# Altium schematic symbol library Anemoia.SchLib: 11 symbols
Pins are listed as number, name and electrical type; pins without a type are passive.

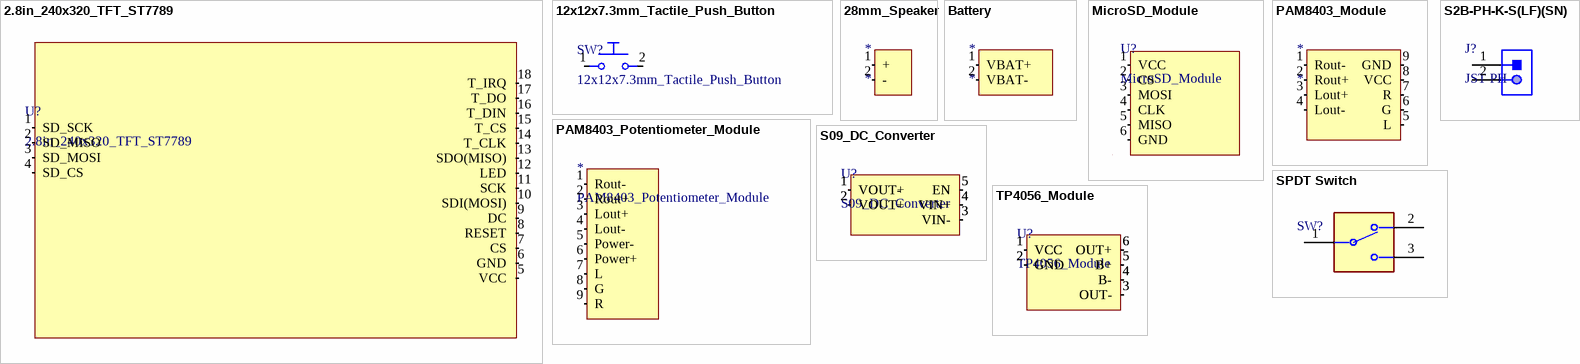
[diagram p0: symbols 2.8in_240x320_TFT_ST7789 to TP4056_Module]

## 2.8in_240x320_TFT_ST7789
designator U?
footprint 2.8in_240x320_TFT_ST7789
pins: 1 SD_SCK (in), 2 SD_MISO (out), 3 SD_MOSI (in), 4 SD_CS (in), 5 VCC (power), 6 GND (power), 7 CS (in), 8 RESET (in), 9 DC (in), 10 SDI(MOSI) (in), 11 SCK (in), 12 LED (power), 13 SDO(MISO) (out), 14 T_CLK (in), 15 T_CS (in), 16 T_DIN (in), 17 T_DO (out), 18 T_IRQ (out)

## 12x12x7.3mm_Tactile_Push_Button
designator SW?
footprint 12x12x7.3mm_Tactile_Push_Button
pins: 1, 2

## 28mm_Speaker
designator *
footprint 28mm_Speaker
pins: 1 +, 2 -

## Battery
designator *
footprint Battery
pins: 1 VBAT+ (power), 2 VBAT- (power)

## MicroSD_Module
designator U?
3.3V MicroSD Module
footprint MicroSD_Module
pins: 1 VCC (power), 2 CS (in), 3 MOSI (in), 4 CLK (in), 5 MISO (out), 6 GND (power)

## PAM8403_Module
designator *
footprint PAM8403
pins: 1 Rout- (out), 2 Rout+ (out), 3 Lout+ (out), 4 Lout- (out), 5 L (in), 6 G (power), 7 R (in), 8 VCC (power), 9 GND (power)

## PAM8403_Potentiometer_Module
designator *
footprint PAM8403_Potentiometer_Module
pins: 1 Rout- (out), 2 Rout+ (out), 3 Lout+ (out), 4 Lout- (out), 5 Power- (power), 6 Power+ (power), 7 L (in), 8 G (power), 9 R (in)

## S2B-PH-K-S(LF)(SN)
designator J?, comment JST PH
CONN HEADER TH R/A 2POS 2mm; Manufacturer Part Number: S2B-PH-K-S(LF)(SN); Capacitance: 10µF; Connector Type: Male Pin; Contact Resistance: 20mΩ; Current Rating: 2A; Gender: Male; Insulation Resistance: 1GΩ; Max Voltage Rating (AC): 100V; Number of Contacts: 2; Tolerance: 20%; Voltage Rating: 50V; Supplier 1: Arrow Electronics; Manufacturer: JST; RoHS: Compliant; Category: Headers and Wire Housings; Stock 1: 15836; Case/Package: Radial; China RoHS: Compliant; Color: Natural, White; Contact Gender: Male; Contact Material: Brass; Contact Mating Length: 3.302mm; Contact Plating: Tin; Depth: 7.6mm; Diameter: 5mm; Fastening Type: Detent; Flammability Rating: UL94 V-0; Height: 11mm; Lead Free: Lead Free; Lead Pitch: 2mm; Length: 11mm; Lifecycle Status: Production; Max Current Rating: 2A; Max Operating Temperature: 85°C; Max Voltage Rating (DC): 100V; Min Operating Temperature: -25°C; Mount: Through Hole; Number of Pins: 2; Number of Poles: 2; Number of Positions: 2; Number of Rows: 1; Orientation: Right Angle; Packaging: Bulk; Pitch: 2mm; Radiation Hardening: No; REACH SVHC: Yes; Terminal Pitch: 2mm; Termination: Solder; Voltage Rating (AC): 100V; Voltage Rating (DC): 50V; Weight: 28.349523g; Width: 4.5mm; Working Voltage: 100V; ComponentLink1URL: https://datasheet.octopart.com:443/S2B-PH-K-S%28LF%29%28SN%29-JST-datasheet-180491669.pdf?src-supplier=IHS; ComponentLink1Description: https://datasheet.octopart.com:443/S2B-PH-K-S%28LF%29%28SN%29-JST-datasheet-180491669.pdf?src-supplier=IHS; ComponentLink2URL: https://datasheet.octopart.com:443/S2B-PH-K-S%28LF%29%28SN%29-JST-datasheet-10411123.pdf?src-supplier=Upverter; ComponentLink2Description: https://datasheet.octopart.com:443/S2B-PH-K-S%28LF%29%28SN%29-JST-datasheet-10411123.pdf?src-supplier=Upverter; ComponentLink3URL: https://datasheet.octopart.com:443/S2B-PH-K-S%28LF%29%28SN%29-JST-datasheet-8324864.pdf?src-supplier=Upverter; ComponentLink3Description: https://datasheet.octopart.com:443/S2B-PH-K-S%28LF%29%28SN%29-JST-datasheet-8324864.pdf?src-supplier=Upverter; ComponentLink4URL: https://datasheet.octopart.com:443/S2B-PH-K-S%28LF%29%28SN%29-JST-datasheet-56537.pdf?src-supplier=Upverter; ComponentLink4Description: https://datasheet.octopart.com:443/S2B-PH-K-S%28LF%29%28SN%29-JST-datasheet-56537.pdf?src-supplier=Upverter; ComponentLink5URL: https://datasheet.octopart.com:443/S2B-PH-K-S%28LF%29%28SN%29-JST-datasheet-15068535.pdf?src-supplier=Upverter; ComponentLink5Description: https://datasheet.octopart.com:443/S2B-PH-K-S%28LF%29%28SN%29-JST-datasheet-15068535.pdf?src-supplier=Upverter; ComponentLink6URL: https://datasheet.octopart.com:443/S2B-PH-K-S%28LF%29%28SN%29-JST-datasheet-147762421.pdf?src-supplier=LKR; ComponentLink6Description: https://datasheet.octopart.com:443/S2B-PH-K-S%28LF%29%28SN%29-JST-datasheet-147762421.pdf?src-supplier=LKR; ComponentLink7URL: https://datasheet.octopart.com:443/S2B-PH-K-S%28LF%29%28SN%29-JST-datasheet-12510261.pdf?src-supplier=Future+Electronics; ComponentLink7Description: https://datasheet.octopart.com:443/S2B-PH-K-S%28LF%29%28SN%29-JST-datasheet-12510261.pdf?src-supplier=Future+Electronics
footprint JST-S2B-PH-K-S_V (THD, 2-Leads, Body 7.6x5.9mm, Pitch 2mm)
pins: 1, 2

## S09_DC_Converter
designator U?
footprint S09_DC_Converter
pins: 1 VOUT+ (power), 1 VOUT- (power), 2 VOUT- (power), 2 VOUT+ (power), 3 VIN- (power), 3 VIN- (power), 4 VIN+ (power), 4 VIN+ (power), 5 EN (in), 5 EN (in)

## SPDT Switch
designator SW?
footprint SPDT_Switch
pins: 1, 2, 3

## TP4056_Module
designator U?
footprint TP4056_Module
pins: 1 VCC (power), 1 VCC (power), 2 GND (power), 2 GND (power), 3 OUT- (power), 3 OUT- (power), 4 B- (power), 4 B- (power), 5 B+ (power), 5 B+ (power), 6 OUT+ (power), 6 OUT+ (power)